# EAGLE library part ADAU1701 (library analog-devices_2)
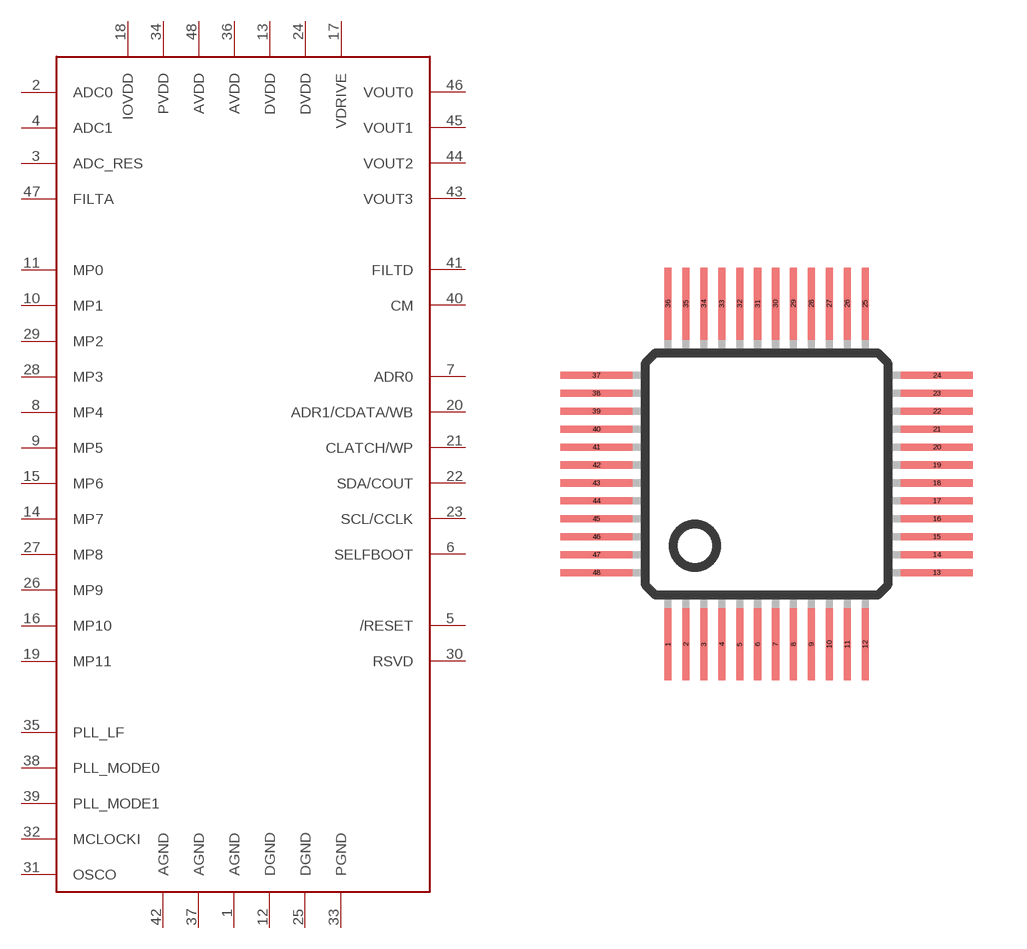
[diagram p0: symbol with the pads of LQFP-48; footprint LQFP-48]

Designator prefix -

## ADAU1701  [LQFP-48]
1  AGND
2  ADC0
3  ADC_RES
4  ADC1
5  /RESET
6  SELFBOOT
7  ADR0
8  MP4
9  MP5
10  MP1
11  MP0
12  DGND
13  DVDD
14  MP7
15  MP6
16  MP10
17  VDRIVE
18  IOVDD
19  MP11
20  ADR1/CDATA/WB
21  CLATCH/WP
22  SDA/COUT
23  SCL/CCLK
24  DVDD
25  DGND
26  MP9
27  MP8
28  MP3
29  MP2
30  RSVD
31  OSCO
32  MCLOCKI
33  PGND
34  PVDD
35  PLL_LF
36  AVDD
37  AGND
38  PLL_MODE0
39  PLL_MODE1
40  CM
41  FILTD
42  AGND
43  VOUT3
44  VOUT2
45  VOUT1
46  VOUT0
47  FILTA
48  AVDD

## Footprint LQFP-48 (pad centres in mm)
smd 0.2 x 2: 1 -2.75,-4.75; 2 -2.25,-4.75; 3 -1.75,-4.75; 4 -1.25,-4.75; 5 -0.75,-4.75; 6 -0.25,-4.75; 7 0.25,-4.75; 8 0.75,-4.75; 9 1.25,-4.75; 10 1.75,-4.75; 11 2.25,-4.75; 12 2.75,-4.75; 25 2.75,4.75; 26 2.25,4.75; 27 1.75,4.75; 28 1.25,4.75; 29 0.75,4.75; 30 0.25,4.75; 31 -0.25,4.75; 32 -0.75,4.75; 33 -1.25,4.75; 34 -1.75,4.75; 35 -2.25,4.75; 36 -2.75,4.75
smd 2 x 0.2: 13 4.75,-2.75; 14 4.75,-2.25; 15 4.75,-1.75; 16 4.75,-1.25; 17 4.75,-0.75; 18 4.75,-0.25; 19 4.75,0.25; 20 4.75,0.75; 21 4.75,1.25; 22 4.75,1.75; 23 4.75,2.25; 24 4.75,2.75; 37 -4.75,2.75; 38 -4.75,2.25; 39 -4.75,1.75; 40 -4.75,1.25; 41 -4.75,0.75; 42 -4.75,0.25; 43 -4.75,-0.25; 44 -4.75,-0.75; 45 -4.75,-1.25; 46 -4.75,-1.75; 47 -4.75,-2.25; 48 -4.75,-2.75